# EAGLE library part OPA_LME49726 (library akita)
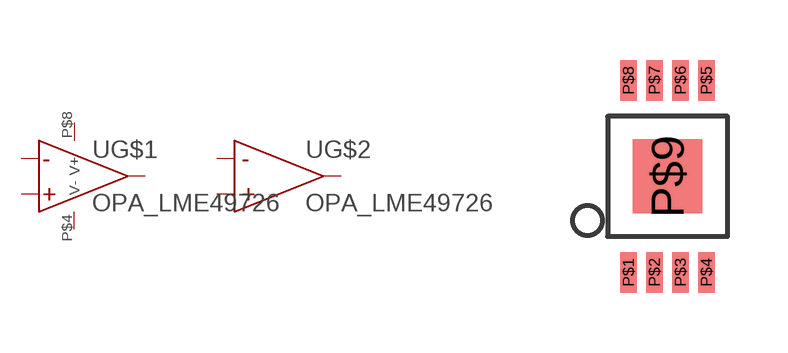
[diagram p126: symbol with the pads of MSOP8E; footprint MSOP8E]

Designator prefix U; gates G$1=OPA_SGL G$2=OPA_SGL_NOPOW

## OPA_LME49726  [MSOP8E]
P$1  G$1:VO
P$2  G$1:INM
P$3  G$1:INP
P$4  G$1:V-
P$5  G$2:INP
P$6  G$2:INM
P$7  G$2:VO
P$8  G$1:V+

## Footprint MSOP8E (pad centres in mm)
smd 0.41 x 1.02: P$1 -0.975,-2.4; P$2 -0.325,-2.4; P$3 0.325,-2.4; P$4 0.975,-2.4; P$5 0.975,2.4; P$6 0.325,2.4; P$7 -0.325,2.4; P$8 -0.975,2.4
smd 1.73 x 1.85: P$9 0,0